# Altium integrated library ON Semi Tuning Diodes.IntLib: 10 symbols
Pins are listed as number, name and electrical type; pins without a type are passive.

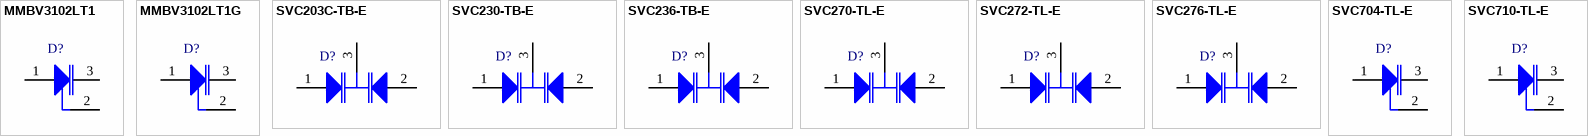
[diagram p0: symbols MMBV3102LT1 to SVC710-TL-E]

## MMBV3102LT1
designator D?
Silicon Tuning Diode, 3-Pin SOT-23, Tape and Reel; Manufacturer: On Semiconductor; PartNumber: MMBV3102LT1; Q Min: 200; DatasheetVersion: Rev. 4; PackageVersion: Rev. AP, 11/2009; PackageReference: SOT-23-3-318-08; PackageDescription: 3-Pin Small Outline Transistor, Body 2.92 x 1.3 mm, Pitch 0.95 mm; Supplier 1: Digi-Key; Supplier Part Number 1: MMBV3102LT1OSCT-ND; Packing: Tape and Reel; RoHS: FALSE; Mounting Technology: Surface Mount; ComponentLink1Description: Manufacturer URL; ComponentLink1URL: http://www.onsemi.com/; ComponentLink2Description: Datasheet; ComponentLink2URL: http://www.onsemi.cn/pub_link/Collateral/MMBV3102LT1-D.PDF; ComponentLink3Description: Package Specification; ComponentLink3URL: http://www.onsemi.cn/pub_link/Collateral/318-08.PDF
footprint ONSC-SOT-23-3-318-08_V (SOT23, 3-Leads, Body 2.92x1.3mm, Pitch 0.95mm)
pins: 1 A, 2 NC, 3 K

## MMBV3102LT1G
designator D?
Silicon Tuning Diode, 3-Pin SOT-23, Pb-Free, Tape and Reel; Manufacturer: On Semiconductor; PartNumber: MMBV3102LT1G; Q Min: 200; DatasheetVersion: Rev. 4; PackageVersion: Rev. AP, 11/2009; PackageReference: SOT-23-3-318-08; PackageDescription: 3-Pin Small Outline Transistor, Body 2.92 x 1.3 mm, Pitch 0.95 mm; Supplier 1: Digi-Key; Supplier Part Number 1: MMBV3102LT1GOSTR-ND; Supplier 2: Digi-Key; Supplier Part Number 2: MMBV3102LT1GOSCT-ND; Supplier 3: Digi-Key; Supplier Part Number 3: MMBV3102LT1GOSDKR-ND; Supplier 4: Farnell; Supplier Part Number 4: 2101202; Supplier 5: Newark; Supplier Part Number 5: 84K8801; Supplier 6: Newark; Supplier Part Number 6: 45J1541; Supplier 7: Mouser; Supplier Part Number 7: 863-MMBV3102LT1G; Packing: Tape and Reel; RoHS: TRUE; Mounting Technology: Surface Mount; ComponentLink1Description: Manufacturer URL; ComponentLink1URL: http://www.onsemi.com/; ComponentLink2Description: Datasheet; ComponentLink2URL: http://www.onsemi.cn/pub_link/Collateral/MMBV3102LT1-D.PDF; ComponentLink3Description: Package Specification; ComponentLink3URL: http://www.onsemi.cn/pub_link/Collateral/318-08.PDF
footprint ONSC-SOT-23-3-318-08_V (SOT23, 3-Leads, Body 2.92x1.3mm, Pitch 0.95mm)
pins: 1 A, 2 NC, 3 K

## SVC203C-TB-E
designator D?
Monolithic Dual Varactor Diodes for FM Tuning, 16 V, 50 nA, CR=4.6, Q=60, 3-Pin CP, Pb-Free, Tape and Reel; Manufacturer: On Semiconductor; PartNumber: SVC203C-TB-E; Q Min: 60; PackageReference: CP-3-318AN_A; PackageDescription: 3-Pin Small Outline Transistor, Body 2.9 x 1.5 mm, Pitch 0.95 mm; Supplier 1: Digi-Key; Supplier Part Number 1: SVC203C-TB-E-ND; Supplier 2: Newark; Supplier Part Number 2: 07W7434; Supplier 3: Mouser; Supplier Part Number 3: 863-SVC203C-TB-E; Packing: Tape and Reel; RoHS: TRUE; Mounting Technology: Surface Mount; ComponentLink1Description: Manufacturer URL; ComponentLink1URL: http://www.onsemi.com/; ComponentLink2Description: Datasheet; ComponentLink2URL: http://www.onsemi.cn/pub_link/Collateral/EN2195-D.PDF; ComponentLink3Description: Package Specification; ComponentLink3URL: http://www.onsemi.com/pub_link/Collateral/EN6619-D.PDF
footprint ONSC-CP-3-318AN_A_V (SOT23, 3-Leads, Body 2.9x1.5mm, Pitch 0.95mm)
pins: 1 A1, 2 A2, 3 K

## SVC230-TB-E
designator D?
Monolithic Dual Varactor Diodes for FM Tuning, 16 V, 50 nA, CR=1.65, Q=100, 3-Pin CP, Pb-Free, Tape and Reel; Manufacturer: On Semiconductor; PartNumber: SVC230-TB-E; Q Min: 100; PackageReference: CP-3-318AN_A; PackageDescription: 3-Pin Small Outline Transistor, Body 2.9 x 1.5 mm, Pitch 0.95 mm; Supplier 1: Digi-Key; Supplier Part Number 1: SVC230-TB-E-ND; Supplier 2: Newark; Supplier Part Number 2: 07W7435; Supplier 3: Mouser; Supplier Part Number 3: 863-SVC230-TB-E; Packing: Tape and Reel; RoHS: TRUE; Mounting Technology: Surface Mount; ComponentLink1Description: Manufacturer URL; ComponentLink1URL: http://www.onsemi.com/; ComponentLink2Description: Datasheet; ComponentLink2URL: http://www.onsemi.cn/pub_link/Collateral/EN7280-D.PDF; ComponentLink3Description: Package Specification; ComponentLink3URL: http://www.onsemi.com/pub_link/Collateral/EN6619-D.PDF
footprint ONSC-CP-3-318AN_A_V (SOT23, 3-Leads, Body 2.9x1.5mm, Pitch 0.95mm)
pins: 1 A1, 2 A2, 3 K

## SVC236-TB-E
designator D?
Monolithic Dual Varactor Diodes for FM Tuning, 16 V, 50 nA, CR=5, Q=70, 3-Pin CP, Pb-Free, Tape and Reel; Manufacturer: On Semiconductor; PartNumber: SVC236-TB-E; Q Min: 70; PackageReference: CP-3-318AN_A; PackageDescription: 3-Pin Small Outline Transistor, Body 2.9 x 1.5 mm, Pitch 0.95 mm; Supplier 1: Digi-Key; Supplier Part Number 1: SVC236-TB-E-ND; Supplier 2: Newark; Supplier Part Number 2: 07W7436; Supplier 3: Mouser; Supplier Part Number 3: 863-SVC236-TB-E; Packing: Tape and Reel; RoHS: TRUE; Mounting Technology: Surface Mount; ComponentLink1Description: Manufacturer URL; ComponentLink1URL: http://www.onsemi.com/; ComponentLink2Description: Datasheet; ComponentLink2URL: http://www.onsemi.cn/pub_link/Collateral/EN6800-D.PDF; ComponentLink3Description: Package Specification; ComponentLink3URL: http://www.onsemi.com/pub_link/Collateral/EN6619-D.PDF
footprint ONSC-CP-3-318AN_A_V (SOT23, 3-Leads, Body 2.9x1.5mm, Pitch 0.95mm)
pins: 1 A1, 2 A2, 3 K

## SVC270-TL-E
designator D?
Monolithic Dual Varactor Diodes for FM Tuning, 16 V, 50 nA, CR=1.65, Q=100, 3-Pin MCPH, Pb-Free, Tape and Reel; Manufacturer: On Semiconductor; PartNumber: SVC270-TL-E; Q Min: 100; PackageReference: MCPH-3; PackageDescription: 3-Pin Small Outline Transistor, Body 2 x 1.6 mm, Pitch 0.65 mm; Supplier 1: Digi-Key; Supplier Part Number 1: SVC270-TL-E-ND; Supplier 2: Mouser; Supplier Part Number 2: 863-SVC270-TL-E; Packing: Tape and Reel; RoHS: TRUE; Mounting Technology: Surface Mount; ComponentLink1Description: Manufacturer URL; ComponentLink1URL: http://www.onsemi.com/; ComponentLink2Description: Datasheet; ComponentLink2URL: http://www.onsemi.com/pub_link/Collateral/ENA0076-D.PDF; ComponentLink3Description: Package Specification; ComponentLink3URL: http://www.onsemi.com/pub_link/Collateral/EN7354-D.PDF
footprint ONSC-MCPH-3_V (SOT23, 3-Leads, Body 2x1.6mm, Pitch 0.65mm)
pins: 1 A1, 2 A2, 3 K

## SVC272-TL-E
designator D?
Monolithic Dual Varactor Diodes for FM Tuning, 14 V, 50 nA, CR=2.3, Q=150, 3-Pin MCPH, Pb-Free, Tape and Reel; Manufacturer: On Semiconductor; PartNumber: SVC272-TL-E; Q Min: 150; PackageReference: MCPH-3; PackageDescription: 3-Pin Small Outline Transistor, Body 2 x 1.6 mm, Pitch 0.65 mm; Supplier 1: Digi-Key; Supplier Part Number 1: SVC272-TL-E-ND; Supplier 2: Mouser; Supplier Part Number 2: 863-SVC272-TL-E; Packing: Tape and Reel; RoHS: TRUE; Mounting Technology: Surface Mount; ComponentLink1Description: Manufacturer URL; ComponentLink1URL: http://www.onsemi.com/; ComponentLink2Description: Datasheet; ComponentLink2URL: http://www.onsemi.com/pub_link/Collateral/EN7680-D.PDF; ComponentLink3Description: Package Specification; ComponentLink3URL: http://www.onsemi.com/pub_link/Collateral/EN7354-D.PDF
footprint ONSC-MCPH-3_V (SOT23, 3-Leads, Body 2x1.6mm, Pitch 0.65mm)
pins: 1 A1, 2 A2, 3 K

## SVC276-TL-E
designator D?
Monolithic Dual Varactor Diodes for FM Tuning, 16 V, 50 nA, CR=3.1, Q=100, 3-Pin MCPH, Pb-Free, Tape and Reel; Manufacturer: On Semiconductor; PartNumber: SVC276-TL-E; Q Min: 100; PackageReference: MCPH-3; PackageDescription: 3-Pin Small Outline Transistor, Body 2 x 1.6 mm, Pitch 0.65 mm; Supplier 1: Digi-Key; Supplier Part Number 1: SVC276-TL-E-ND; Supplier 2: Mouser; Supplier Part Number 2: 863-SVC276-TL-E; Packing: Tape and Reel; RoHS: TRUE; Mounting Technology: Surface Mount; ComponentLink1Description: Manufacturer URL; ComponentLink1URL: http://www.onsemi.com/; ComponentLink2Description: Datasheet; ComponentLink2URL: http://www.onsemi.com/pub_link/Collateral/EN7618A-D.PDF; ComponentLink3Description: Package Specification; ComponentLink3URL: http://www.onsemi.com/pub_link/Collateral/EN7354-D.PDF
footprint ONSC-MCPH-3_V (SOT23, 3-Leads, Body 2x1.6mm, Pitch 0.65mm)
pins: 1 A1, 2 A2, 3 K

## SVC704-TL-E
designator D?
Single Varactor Diode for VCO, 16 V, 50 nA, CR=6, rS=0.8 Ohm, 3-Pin MCPH, Pb-Free, Tape and Reel; Manufacturer: On Semiconductor; PartNumber: SVC704-TL-E; PackageReference: MCPH-3; PackageDescription: 3-Pin Small Outline Transistor, Body 2 x 1.6 mm, Pitch 0.65 mm; Supplier 1: Digi-Key; Supplier Part Number 1: SVC704-TL-E-ND; Supplier 2: Mouser; Supplier Part Number 2: 863-SVC704-TL-E; Packing: Tape and Reel; RoHS: TRUE; Mounting Technology: Surface Mount; ComponentLink1Description: Manufacturer URL; ComponentLink1URL: http://www.onsemi.com/; ComponentLink2Description: Datasheet; ComponentLink2URL: http://www.onsemi.com/pub_link/Collateral/EN8997-D.PDF; ComponentLink3Description: Package Specification; ComponentLink3URL: http://www.onsemi.com/pub_link/Collateral/EN7354-D.PDF
footprint ONSC-MCPH-3_V (SOT23, 3-Leads, Body 2x1.6mm, Pitch 0.65mm)
pins: 1 A, 2 NC, 3 K

## SVC710-TL-E
designator D?
Monolithic Single Varactor Diode for VCO, 15 V, 20 nA, CR=4.8, rS=1.6 Ohm, 3-Pin MCPH, Pb-Free, Tape and Reel; Manufacturer: On Semiconductor; PartNumber: SVC710-TL-E; PackageReference: MCPH-3; PackageDescription: 3-Pin Small Outline Transistor, Body 2 x 1.6 mm, Pitch 0.65 mm; Supplier 1: Digi-Key; Supplier Part Number 1: SVC710-TL-E-ND; Supplier 2: Mouser; Supplier Part Number 2: 863-SVC710-TL-E; Packing: Tape and Reel; RoHS: TRUE; Mounting Technology: Surface Mount; ComponentLink1Description: Manufacturer URL; ComponentLink1URL: http://www.onsemi.com/; ComponentLink2Description: Datasheet; ComponentLink2URL: http://www.onsemi.com/pub_link/Collateral/ENA0605-D.PDF; ComponentLink3Description: Package Specification; ComponentLink3URL: http://www.onsemi.com/pub_link/Collateral/EN7354-D.PDF
footprint ONSC-MCPH-3_V (SOT23, 3-Leads, Body 2x1.6mm, Pitch 0.65mm)
pins: 1 A, 2 NC, 3 K